# Altium footprint library PCB2.PcbLib: 14 footprints
Each footprint in its own frame and in the unit in brackets; x right, y up, seen from the top. Pads: shape width x height; smd on the part's side, far side on the other; paste and mask are expansions set on the pad; w line width, h text height; cw(c..) or ccw(c..) is an arc to the next point about the centre after c.
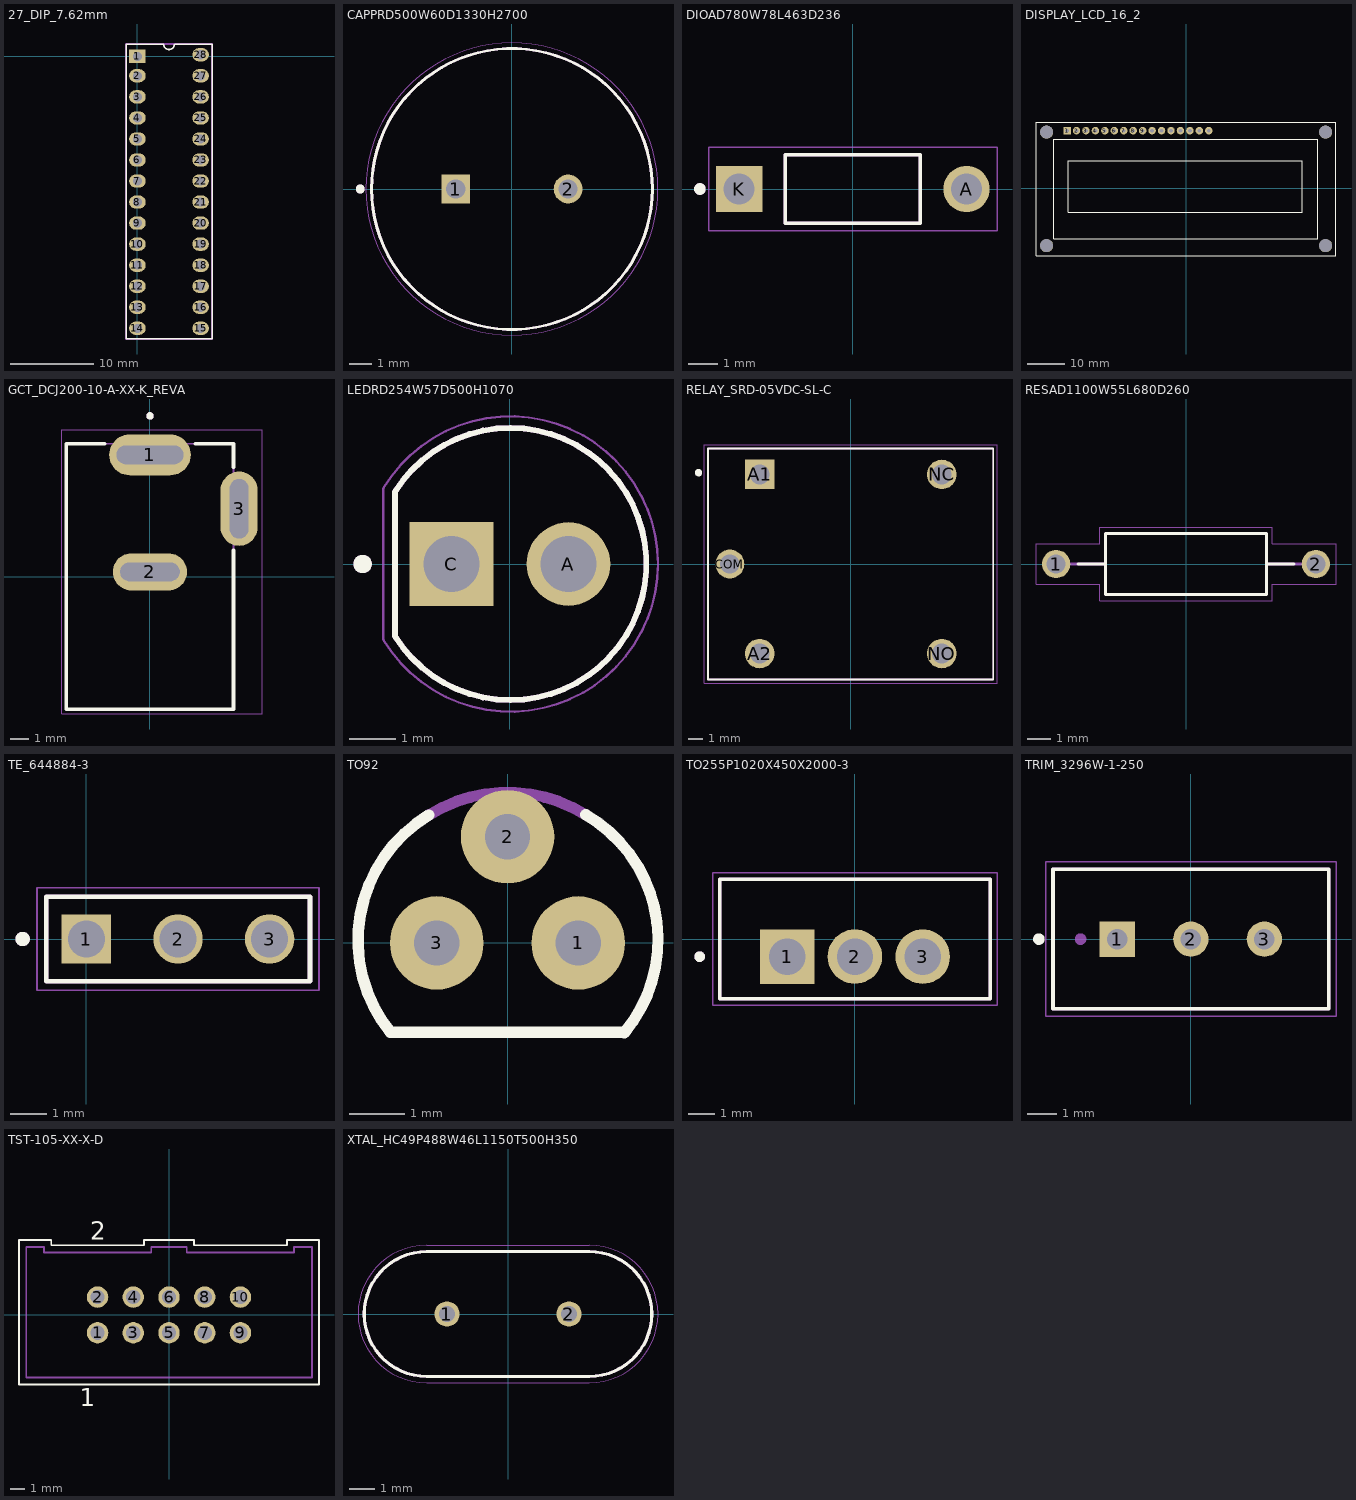
[diagram p0: the footprints below, top view; thin cyan lines are the x and y axes]

## 27_DIP_7.62mm [mm]
pads (28):
  rect 2x1.6 hole 1.1: 1(0,0)
  oval 2x1.6 hole 1.1: 2(0.01,-2.35) 3(0.01,-4.89) 4(0.01,-7.43) 5(0.01,-9.97) 6(0.01,-12.51) 7(0.01,-15.05) 8(0.01,-17.59) 9(0.01,-20.13) 10(0.01,-22.67) 11(0.01,-25.21) 12(0.01,-27.75) 13(0.01,-30.29) 14(0.01,-32.83) 15(7.63,-32.83) 16(7.63,-30.29) 17(7.63,-27.75) 18(7.63,-25.21) 19(7.63,-22.67) 20(7.63,-20.13) 21(7.63,-17.59) 22(7.63,-15.05) 23(7.63,-12.51) 24(7.63,-9.97) 25(7.63,-7.43) 26(7.63,-4.89) 27(7.63,-2.35) 28(7.63,0.19)
Top Overlay:
  lines w0.2: 4.455,1.46 cw(c3.82,1.46) 3.185,1.46 -1.355,1.46 -1.355,-0.763 -1.355,-5.208 -1.355,-7.43 -1.355,-11.875 -1.355,-20.765 -1.355,-25.21 -1.355,-27.433 -1.355,-31.878 -1.355,-34.045 -1.3,-34.1 9.02,-34.1 9.02,1.46 4.555,1.46
Mechanical 2:
  circle w1: c-0.085,0.08 r0.1
  lines w0.254: -1.385,-34.12 -1.385,1.48 9.015,1.48 9.015,-34.12 -1.385,-34.12
  text ".Designator" at 4.253,-21.966 h1.52
3D body "User Library-28 pin dip.step": height 4.65, standoff -1.57, extent -0.227,-34.26 7.647,1.681

## CAPPRD500W60D1330H2700 [mm]
pads (2):
  rect 1.28x1.28 hole 0.85: 1(-2.5,0)
  round 1.28 hole 0.85: 2(2.5,0)
Top Overlay:
  circle w0.2: c-6.75,0 r0.1
  circle w0.127: c0,0 r6.25
Mechanical 13:
  circle w0.2: c-6.75,0 r0.1
  circle w0.127: c0,0 r6.25
Mechanical 15:
  circle w0.05: c0,0 r6.5

## DIOAD780W78L463D236 [mm]
pads (2):
  round 1.59 hole 1.06: A(3.904,0)
  rect 1.59x1.59 / inner round 1.59 / far side rect 1.59x1.59 hole 1.06: K(-3.905,0)
Top Overlay:
  circle w0.2: c-5.25,0 r0.1
  lines w0.127: -2.317,-1.18 -2.317,1.18 2.317,1.18 2.317,-1.18 -2.317,-1.18
Mechanical 13:
  circle w0.2: c-5.25,0 r0.1
  lines w0.127: -2.317,-1.18 -2.317,1.18 2.317,1.18 2.317,-1.18 -2.317,-1.18
Mechanical 15:
  lines w0.05: -4.949,-1.43 4.949,-1.43 4.949,1.43 -4.949,1.43 -4.949,-1.43
3D body "step_temp.STEP": height 2.69, standoff -21.77, extent -5.474,-1.346 5.474,1.346

## DISPLAY_LCD_16_2 [mm]
pads (20):
  rect 2x2 hole 1: 1(-31.999,15.451)
  round 2 hole 1: 2(-29.459,15.451) 3(-26.919,15.451) 4(-24.379,15.451) 5(-21.839,15.451) 6(-19.299,15.451) 7(-16.759,15.451) 8(-14.219,15.451) 9(-11.679,15.451) 10(-9.139,15.451) 11(-6.599,15.451) 12(-4.059,15.451) 13(-1.519,15.451) 14(1.021,15.451) 15(3.561,15.451) 16(6.101,15.451)
  round 3.5 hole 3.5 unplated: ""(-37.5,-15.451) ""(-37.5,15.05) ""(37.5,-15.451) ""(37.5,15.05)
Top Overlay:
  lines w0.254: -40.349,-18.199 -40.349,17.742 40.296,17.742 40.296,-18.199 -40.349,-18.199 ; -35.555,-13.635 -35.555,13.165 35.445,13.165 35.445,-13.635 -35.555,-13.635 ; -31.745,-6.478 -31.745,7.323 31.255,7.323 31.255,-6.478 -31.745,-6.478
3D body "DISPLAY_LCD_16_2.STEP": height 12, standoff -10.8, extent -40.349,-18.258 40.35,17.742

## GCT_DCJ200-10-A-XX-K_REVA [mm]
pads (3):
  oval 4.4x2.2 hole 1 slot 3.6 at 0 deg: 1(0,6.55)
  oval 4x2 hole 1 slot 3.2 at 0 deg: 2(0,0.25)
  oval 2x4 hole 1 slot 3.2 at 90 deg: 3(4.8,3.65)
Top Overlay:
  circle w0.2: c0,8.65 r0.1
  lines w0.2: -2.45,7.15 -4.5,7.15 -4.5,-7.15 4.5,-7.15 4.5,1.4 ; 2.45,7.15 4.5,7.15 4.5,5.9
Mechanical 13:
  circle w0.2: c0,8.65 r0.1
  lines w0.1: -4.5,-7.15 4.5,-7.15 4.5,7.15 -4.5,7.15 -4.5,-7.15
Mechanical 15:
  lines w0.05: -4.75,-7.4 -4.75,7.9 6.05,7.9 6.05,-7.4 -4.75,-7.4
3D body "step_temp.STEP": height 11, standoff -3.5, extent -4.5,-7.15 5.05,7.15

## LEDRD254W57D500H1070 [mm]
height 10.7
pads (2):
  round 1.815 hole 1.21: A(1.27,0)
  rect 1.815x1.815 / inner round 1.815 / far side rect 1.815x1.815 hole 1.21: C(-1.27,0)
Top Overlay:
  circle w0.2: c-3.2,0 r0.1
  lines w0.127: -2.5,-1.566 ccw(c0.006,0) -2.5,1.566 -2.5,-1.566
Mechanical 13:
  circle w0.2: c-3.2,0 r0.1
  lines w0.127: -2.5,-1.566 ccw(c0.006,0) -2.5,1.566 -2.5,-1.566
Mechanical 15:
  lines w0.05: -2.75,-1.64 -2.75,1.64 ; -2.743,-1.652 ccw(c0.007,0) -2.743,1.652
3D body "step_temp.STEP": height 9.1, standoff -17.8, extent -2.6,-2.95 2.95,2.95

## RELAY_SRD-05VDC-SL-C [mm]
pads (5):
  rect 1.98x1.98 / inner round 1.98 / far side rect 1.98x1.98 hole 1.32: A1(-6.1,6)
  round 1.98 hole 1.32: A2(-6.1,-6) NC(6.1,6) NO(6.1,-6)
  round 1.935 hole 1.29: COM(-8.1,0)
Top Overlay:
  circle w0.3: c-10.2,6.119 r0.1
  lines w0.127: -9.55,-7.75 9.55,-7.75 9.55,7.75 -9.55,7.75 -9.55,-7.75
Mechanical 13:
  lines w0.127: -9.55,-7.75 9.55,-7.75 9.55,7.75 -9.55,7.75 -9.55,-7.75
Mechanical 15:
  lines w0.05: -9.8,-8 9.8,-8 9.8,8 -9.8,8 -9.8,-8
3D body "step_temp.STEP": height 15.8, standoff -3, extent -9.6,-7.8 9.6,7.8

## RESAD1100W55L680D260 [mm]
height 2.6
pads (2):
  round 1.2 hole 0.8: 1(-5.5,0) 2(5.5,0)
Top Overlay:
  lines w0.127: -4.58,0 -3.4,0 ; 4.58,0 3.4,0 ; -3.4,0 -3.4,-1.3 3.4,-1.3 3.4,0 ; -3.4,0 -3.4,1.3 3.4,1.3 3.4,0
Mechanical 13:
  lines w0.127: -4.9,0 -3.4,0 ; 4.9,0 3.4,0 ; -3.4,0 -3.4,-1.3 3.4,-1.3 3.4,0 ; -3.4,0 -3.4,1.3 3.4,1.3 3.4,0
Mechanical 15:
  lines w0.05: -6.35,-0.85 -6.35,0.85 -3.65,0.85 -3.65,1.55 3.65,1.55 3.65,0.85 6.35,0.85 6.35,-0.85 3.65,-0.85 3.65,-1.55 -3.65,-1.55 -3.65,-0.85 -6.35,-0.85
3D body "step_temp.STEP": height 2.6, standoff -25.53, extent -5.775,-1.3 5.775,1.3

## TE_644884-3 [mm]
pads (3):
  rect 1.37x1.37 hole 1.02: 1(0,0)
  round 1.37 hole 1.02: 2(2.54,0) 3(5.08,0)
Top Overlay:
  circle w0.2: c-1.77,0 r0.1
  lines w0.127: -1.12,-1.17 -1.12,1.17 6.2,1.17 6.2,-1.17 -1.12,-1.17
Mechanical 13:
  circle w0.2: c-1.77,0 r0.1
  lines w0.127: -1.12,-1.17 -1.12,1.17 6.2,1.17 6.2,-1.17 ; -1.12,-1.17 6.2,-1.17 ; -1.12,-1.17 6.2,-1.17
Mechanical 15:
  lines w0.05: -1.37,-1.42 -1.37,1.42 6.45,1.42 6.45,-1.42 -1.37,-1.42

## TO92 [mil]
pads (3):
  round 66 hole 32: 1(50,0) 2(0,75) 3(-50,0)
Top Overlay:
  lines w8: -82.68,-62.99 82.68,-62.99 ; -82.51,-63.2 cw(c-2.23,1.81) -55.43,90.36 ; 55.23,90.48 cw(c4.25,2.18) 82.36,-63.37
Mechanical 13:
  lines w8: -55.29,90.45 cw(c0,1.97) 55.29,90.45

## TO255P1020X450X2000-3 [mm]
pads (3):
  rect 2.055x2.055 / inner round 2.055 / far side rect 2.055x2.055 hole 1.37: 1(-2.55,-0.662)
  round 2.055 hole 1.37: 2(0,-0.662) 3(2.55,-0.662)
Top Overlay:
  circle w0.2: c-5.85,-0.663 r0.1
  lines w0.127: -5.1,-2.25 5.1,-2.25 5.1,2.25 -5.1,2.25 -5.1,-2.25
Mechanical 13:
  circle w0.2: c-5.85,-0.663 r0.1
  lines w0.127: -5.1,-2.25 5.1,-2.25 5.1,2.25 -5.1,2.25 -5.1,-2.25
Mechanical 15:
  lines w0.05: -5.35,-2.5 5.35,-2.5 5.35,2.5 -5.35,2.5 -5.35,-2.5
3D body "step_temp.STEP": height 20, standoff -10.6, extent -5.1,-2.25 5.1,2.25

## TRIM_3296W-1-250 [mm]
pads (3):
  rect 1.218x1.218 / inner round 1.218 / far side rect 1.218x1.218 hole 0.71: 1(-2.54,0)
  round 1.218 hole 0.71: 2(0,0) 3(2.54,0)
Top Overlay:
  circle w0.2: c-5.25,0 r0.1
  lines w0.127: -4.765,-2.41 -4.765,2.42 4.765,2.42 4.765,-2.41 -4.765,-2.41
Mechanical 13:
  circle w0.2: c-3.81,0 r0.1
  lines w0.127: -4.765,-2.41 4.765,-2.41 4.765,2.42 -4.765,2.42 -4.765,-2.41
Mechanical 15:
  lines w0.05: -5.015,-2.66 5.015,-2.66 5.015,2.67 -5.015,2.67 -5.015,-2.66
3D body "step_temp.STEP": height 11.55, standoff -7.72, extent -4.765,-2.41 4.765,2.42

## TST-105-XX-X-D [mil]
pads (10):
  round 60 hole 40: 1(-200,-50) 2(-200,50) 3(-100,-50) 4(-100,50) 5(0,-50) 6(0,50) 7(100,-50) 8(100,50) 9(200,-50) 10(200,50)
Top Overlay:
  lines w5: -420,-195 -420,210 -330,210 -330,195 -70,195 -70,210 70,210 70,195 330,195 330,210 420,210 420,-195 -420,-195
  text "2" at -220.3,210.29 h50.07
  text "1" at -250,-255 h50.08
Mechanical 13:
  lines w5: -400,-175 -400,190 -350,190 -350,175 -50,175 -50,190 50,190 50,175 350,175 350,190 400,190 400,-175 -400,-175

## XTAL_HC49P488W46L1150T500H350 [mm]
pads (2):
  round 1.007 hole 0.657: 1(-2.44,0) 2(2.44,0)
Top Overlay:
  lines w0.127: -5.75,0 ccw(c-3.25,0) -3.25,-2.5 3.25,-2.5 ccw(c3.25,0) 5.75,0 ccw(c3.25,0) 3.25,2.5 -3.25,2.5 ccw(c-3.25,0) -5.75,0
Mechanical 13:
  lines w0.127: -5.75,0 ccw(c-3.25,0) -3.25,-2.5 3.25,-2.5 ccw(c3.25,0) 5.75,0 ccw(c3.25,0) 3.25,2.5 -3.25,2.5 ccw(c-3.25,0) -5.75,0
Mechanical 15:
  lines w0.05: -6,0 ccw(c-3.25,0) -3.25,-2.75 3.25,-2.75 ccw(c3.25,0) 6,0 ccw(c3.25,0) 3.25,2.75 -3.25,2.75 ccw(c-3.25,0) -6,0
3D body "step_temp.STEP": height 2.5, standoff -2.5, extent -5.75,-3.25 5.75,5.75